# Altium footprint library boost_new.PcbLib: 17 footprints (part 1 of 2)
Each footprint in its own frame and in the unit in brackets; x right, y up, seen from the top. Pads: shape width x height; smd on the part's side, far side on the other; paste and mask are expansions set on the pad; w line width, h text height; cw(c..) or ccw(c..) is an arc to the next point about the centre after c.
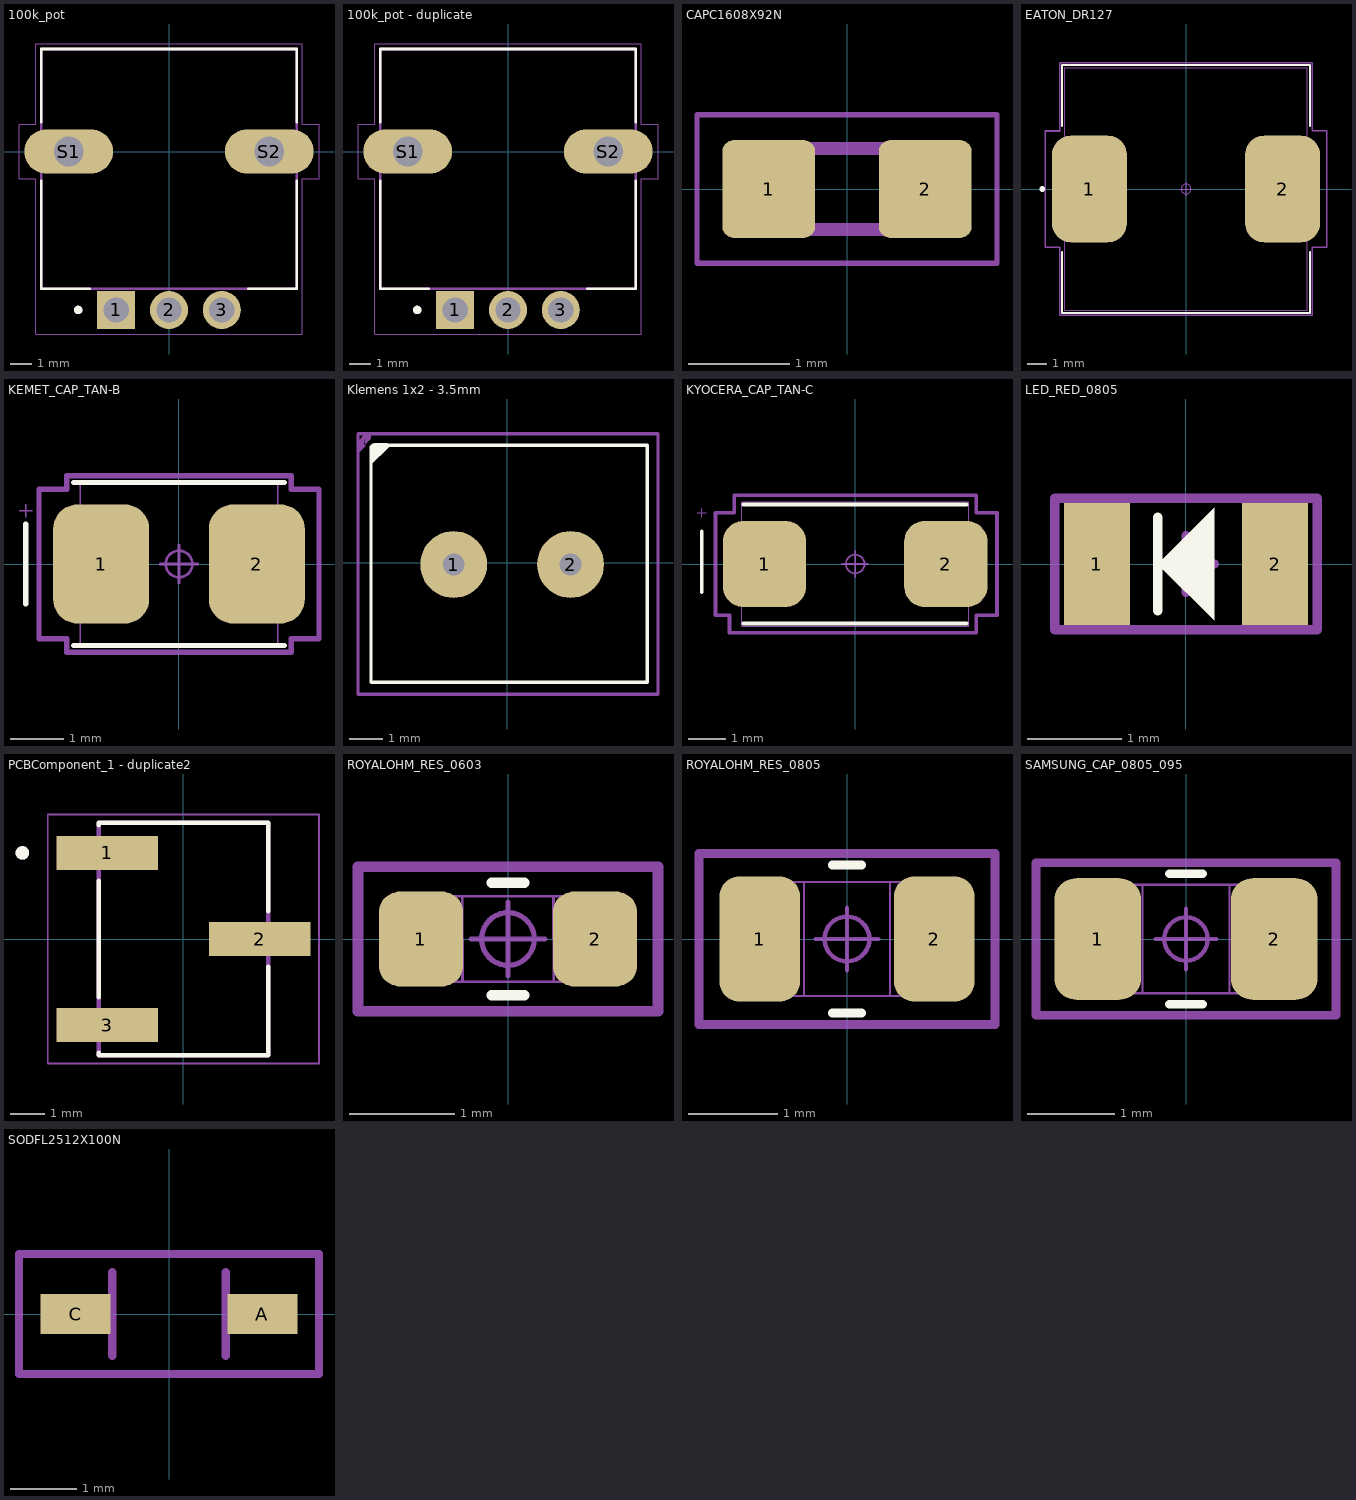
[diagram p0: the footprints below, top view; thin cyan lines are the x and y axes]

## 100k_pot [mm]
pads (5):
  rect 1.8x1.8 hole 1.2: 1(-2.5,-7.5)
  round 1.8 hole 1.2: 2(0,-7.5) 3(2.5,-7.5)
  oval 4.2x2.1 hole 1.4 square: S1(-4.75,0) S2(4.75,0)
Top Overlay:
  circle w0.2: c-4.3,-7.5 r0.1
  lines w0.127: -6.05,-1.4 -6.05,-6.5 -3.75,-6.5 ; -6.05,1.4 -6.05,4.85 6.05,4.85 6.05,1.4 ; 3.75,-6.5 6.05,-6.5 6.05,-1.4
Mechanical 13:
  circle w0.2: c-4.3,-7.5 r0.1
  lines w0.127: -6.05,-6.5 -6.05,4.85 6.05,4.85 6.05,-6.5 -6.05,-6.5
Mechanical 15:
  lines w0.05: -7.1,-1.3 -7.1,1.3 -6.3,1.3 -6.3,5.1 6.3,5.1 6.3,1.3 7.1,1.3 7.1,-1.3 6.3,-1.3 6.3,-8.65 -6.3,-8.65 -6.3,-1.3 -7.1,-1.3
3D body "step_temp.STEP": height 26, standoff -4, extent -6.048,-6.25 6.05,6.25

## 100k_pot - duplicate [mm]
pads (5):
  rect 1.8x1.8 hole 1.2: 1(-2.5,-7.5)
  round 1.8 hole 1.2: 2(0,-7.5) 3(2.5,-7.5)
  oval 4.2x2.1 hole 1.4 square: S1(-4.75,0) S2(4.75,0)
Top Overlay:
  circle w0.2: c-4.3,-7.5 r0.1
  lines w0.127: -6.05,-1.4 -6.05,-6.5 -3.75,-6.5 ; -6.05,1.4 -6.05,4.85 6.05,4.85 6.05,1.4 ; 3.75,-6.5 6.05,-6.5 6.05,-1.4
Mechanical 13:
  circle w0.2: c-4.3,-7.5 r0.1
  lines w0.127: -6.05,-6.5 -6.05,4.85 6.05,4.85 6.05,-6.5 -6.05,-6.5
Mechanical 15:
  lines w0.05: -7.1,-1.3 -7.1,1.3 -6.3,1.3 -6.3,5.1 6.3,5.1 6.3,1.3 7.1,1.3 7.1,-1.3 6.3,-1.3 6.3,-8.65 -6.3,-8.65 -6.3,-1.3 -7.1,-1.3
3D body "step_temp.STEP": height 26, standoff -4, extent -6.048,-6.25 6.05,6.25

## CAPC1608X92N [mm]
pads (2):
  rrect25% 0.92x0.97 smd: 1(-0.775,0) 2(0.775,0)
Mechanical 13:
  lines w0.127: -0.8,-0.4 -0.8,0.4 0.8,0.4 0.8,-0.4 -0.8,-0.4
Mechanical 15:
  lines w0.05: -1.485,-0.735 -1.485,0.735 1.485,0.735 1.485,-0.735 -1.485,-0.735
3D body "step_temp.STEP": height 0.87, standoff 0, extent -0.8,-0.4 0.8,0.4

## EATON_DR127 [mm]
pads (2):
  rrect50% 3.85x5.5 smd mask+0.04: 1(-4.975,0) 2(4.975,0)
Top Overlay:
  circle w0.152: c-7.404,0 r0.076
  lines w0.1: -6.375,-3.25 -6.375,-6.375 6.375,-6.375 6.375,-3.25 ; -6.375,3.25 -6.375,6.375 6.375,6.375 6.375,3.25
Mechanical 13:
  lines w0.025: -6.248,-6.248 -6.248,6.248 6.248,6.248 6.248,-6.248 -6.248,-6.248
Mechanical 15:
  circle w0.05: c0,0 r0.25
  lines w0.05: -0.35,0 0.35,0 ; 0,-0.35 0,0.35
  lines w0.1: -7.25,2.998 -6.502,2.998 -6.502,6.502 6.502,6.502 6.502,3 7.25,3 7.25,-3 6.502,-3 6.502,-6.502 -6.502,-6.502 -6.502,-3 -7.25,-3 -7.25,3
3D body "User Library-DR127-1.step": height 8, standoff 0, extent -6.25,-6.25 6.25,6.25

## KEMET_CAP_TAN-B [mm]
pads (2):
  rrect50% 1.8x2.23 smd paste+0 mask+0.04: 1(-1.46,0) 2(1.46,0)
Top Overlay:
  lines w0.1: -2.875,-0.75 -2.875,0.75 ; -1.977,-1.527 1.977,-1.527 ; -1.977,1.527 1.977,1.527
Mechanical 13:
  lines w0.025: -3,1 -2.75,1 ; -2.875,0.875 -2.875,1.125 ; -1.85,-1 -0.875,-1 -0.875,1 -1.85,1 ; 1.85,-1 0.875,-1 0.875,1 1.85,1 ; -1.85,-1.525 1.85,-1.525 1.85,1.525 -1.85,1.525 -1.85,-1.525
Mechanical 15:
  circle w0.05: c0,0 r0.25
  lines w0.05: -0.35,0 0.35,0 ; 0,-0.35 0,0.35
  lines w0.1: -2.625,-1.404 -2.625,1.404 -2.104,1.404 -2.104,1.654 2.104,1.654 2.104,1.404 2.625,1.404 2.625,-1.404 2.104,-1.404 2.104,-1.654 -2.104,-1.654 -2.104,-1.404 -2.625,-1.404
3D body "T495B106K025ATE750.step": height 2.1, standoff 0, extent -1.85,-1.5 1.85,1.5

## Klemens 1x2 - 3.5mm [mm]
pads (2):
  round 2 hole 0.65: 1(-1.6,-0.05) 2(1.9,-0.05)
Top Overlay:
  region: -3.533,3.482 -4.106,2.909 -4.106,3.444 -3.972,3.577 -3.593,3.577
  lines w0.1: -4.075,3.475 -4.075,-3.575 4.2,-3.575 4.2,3.525 -4.025,3.525
Mechanical 3:
  region: -4.248,3.86 -4.464,3.644 -4.464,3.861 -4.462,3.86 -4.248,3.86 -4.248,3.496 -4.462,3.282 -4.462,3.86 -4.248,3.86 -4.241,3.853 -4.082,3.853 -4.082,3.709 -4.285,3.507
  lines w0.1: -4.462,-3.922 -4.453,-3.931 4.517,-3.931 4.517,3.86 -4.248,3.86 -4.462,3.86 -4.462,-3.922
3D body "terminal_blocks_a-tb350-te02.stp": height 8.9, standoff -3.29, extent -3.9,-3.45 4.094,3.55

## KYOCERA_CAP_TAN-C [mm]
pads (2):
  rrect50% 2.24x2.32 smd mask+0.04: 1(-2.435,0) 2(2.435,0)
Top Overlay:
  lines w0.1: -4.125,-0.75 -4.125,0.875 ; -3,-1.6 3,-1.6 ; -3,1.6 3,1.6
Mechanical 13:
  lines w0.025: -4.25,1.375 -4,1.375 ; -4.125,1.25 -4.125,1.5 ; -3.05,-1.675 3.05,-1.675 3.05,1.675 -3.05,1.675 -3.05,-1.675
Mechanical 15:
  circle w0.05: c0,0 r0.25
  lines w0.05: -0.35,0 0.35,0 ; 0,-0.35 0,0.35
  lines w0.1: -3.75,-1.375 -3.75,1.375 -3.25,1.375 -3.25,1.85 3.25,1.85 3.25,1.375 3.81,1.375 3.81,-1.375 3.25,-1.375 3.25,-1.85 -3.375,-1.85 -3.375,-1.375 -3.75,-1.375
3D body "User Library-C_case.STEP": height 2.7, standoff 0, extent -3.05,-1.675 3.05,1.675

## LED_RED_0805 [mm]
pads (2):
  rect 0.7x1.3 smd mask+0.05: 1(-0.95,0) 2(0.95,0)
Top Overlay:
  region: -0.3,0 0.3,0.6 0.3,-0.6
  lines w0.1: -0.3,-0.5 -0.3,0.5
Top Component Center:
  lines w0.1: -0.3,0 0.3,0 ; 0,-0.3 0,0.3 ; -1.4,-0.7 -1.4,0.7 1.4,0.7 1.4,-0.7 -1.4,-0.7
Top Designator:
  lines w0.1: -1.4,-0.7 -1.4,0.7 1.4,0.7 1.4,-0.7 -1.4,-0.7
  text "'.Designator'" at -1.25,-0.317 h0.7
3D body "SMD_0805LED_RED.STEP": height 1.1, standoff 0, extent -1.01,-0.625 1.01,0.625

## PCBComponent_1 [mm]

## PCBComponent_1 - duplicate [mm]

## PCBComponent_1 - duplicate1 [mm]

## PCBComponent_1 - duplicate2 [mm]
pads (3):
  rect 3x1 smd: 1(-2.25,2.54) 2(2.25,0) 3(-2.25,-2.54)
Top Overlay:
  circle w0.2: c-4.75,2.54 r0.1
  lines w0.127: -2.5,-3.36 -2.5,-3.425 2.5,-3.425 2.5,-0.82 ; -2.5,-1.72 -2.5,1.72 ; -2.5,3.36 -2.5,3.425 2.5,3.425 2.5,0.82
Mechanical 13:
  circle w0.2: c-4.75,2.54 r0.1
  lines w0.127: -2.5,-3.425 -2.5,3.425 2.5,3.425 2.5,-3.425 -2.5,-3.425
Mechanical 15:
  lines w0.05: -4,-3.675 -4,3.675 4,3.675 4,-3.675 -4,-3.675
3D body "step_temp.STEP": height 8, standoff 0, extent -3.35,-3.425 3.35,3.425

## ROYALOHM_RES_0603 [mm]
pads (2):
  rrect50% 0.8x0.9 smd paste+0 mask+0.04: 1(-0.825,0) 2(0.825,0)
Top Overlay:
  lines w0.1: -0.152,-0.533 0.152,-0.533 ; -0.152,0.533 0.152,0.533
Mechanical 13:
  lines w0.025: -0.432,0.406 -0.432,-0.394 ; 0.432,0.394 0.432,-0.406 ; -0.813,-0.406 0.813,-0.406 0.813,0.406 -0.813,0.406 -0.813,-0.406
Mechanical 15:
  circle w0.05: c0,0 r0.25
  lines w0.05: -0.35,0 0.35,0 ; 0,-0.35 0,0.35
  lines w0.1: -1.422,-0.686 -1.422,0.686 1.422,0.686 1.422,-0.686 -1.422,-0.686
3D body "RES 0603.STEP": height 0.45, standoff 0, extent -0.8,-0.4 0.8,0.4

## ROYALOHM_RES_0805 [mm]
pads (2):
  rrect50% 0.9x1.397 smd paste+0 mask+0.04: 1(-0.975,0) 2(0.975,0)
Top Overlay:
  lines w0.1: -0.162,-0.826 0.162,-0.826 ; -0.162,0.826 0.162,0.826
Mechanical 13:
  lines w0.025: -0.48,-0.635 -0.48,0.635 ; 0.48,-0.635 0.48,0.635 ; -1.016,-0.635 1.016,-0.635 1.016,0.635 -1.016,0.635 -1.016,-0.635
Mechanical 15:
  circle w0.05: c0,0 r0.25
  lines w0.05: -0.35,0 0.35,0 ; 0,-0.35 0,0.35
  lines w0.1: -1.65,-0.953 -1.65,0.953 1.65,0.953 1.65,-0.953 -1.65,-0.953
3D body "RES 0805.STEP": height 0.6, standoff 0, extent -1,-0.625 1,0.625

## SAMSUNG_CAP_0805_095 [mm]
pads (2):
  rrect50% 1x1.4 smd paste+0 mask+0.04: 1(-1.016,0) 2(1.016,0)
Top Overlay:
  lines w0.1: -0.192,-0.752 0.192,-0.752 ; -0.192,0.752 0.192,0.752
Mechanical 13:
  lines w0.025: -1,-0.625 -1,0.625 ; -1,-0.625 1,-0.625 ; -1,-0.625 -0.5,-0.625 -0.5,0.625 -1,0.625 ; -1,-0.625 -1,0.625 ; -1,0.625 1,0.625 ; 1,-0.625 1,0.625 ; 1,-0.625 1,0.625 ; 1,-0.625 0.5,-0.625 0.5,0.625 1,0.625
Mechanical 15:
  circle w0.05: c0,0 r0.25
  lines w0.05: -0.35,0 0.35,0 ; 0,-0.35 0,0.35
  lines w0.1: -1.727,-0.879 1.727,-0.879 1.727,0.879 -1.727,0.879 -1.727,-0.879
3D body "CAP_0805_095.step": height 0.96, standoff -0.01, extent -1,-0.635 1,0.639

## SODFL2512X100N [mm]
pads (2):
  rect 1.05x0.6 smd: A(1.4,0) C(-1.4,0)
Mechanical 13:
  lines w0.127: -0.85,-0.625 -0.85,0.625 ; 0.85,-0.625 0.85,0.625
Mechanical 15:
  lines w0.127: -2.25,-0.9 2.25,-0.9 2.25,0.9 -2.25,0.9 -2.25,-0.9
3D body "step_temp.STEP": height 1.15, standoff 0, extent -1.338,-0.65 1.338,0.65